# Altium schematic symbol library ASV-50MHz-GOST.SchLib: 2 symbols
Pins are listed as number, name and electrical type; pins without a type are passive.

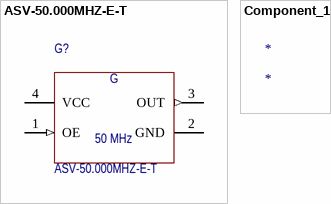
[diagram p0: symbols ASV-50.000MHZ-E-T to Component_1]

## ASV-50.000MHZ-E-T
designator G?
Abracon 50 MHz HCMOS 3.3 V oscillator; symbol redrawn from manufacturer datasheet
pins: 1 OE (in), 2 GND (power), 3 OUT (out), 4 VCC (power)
text: G; 50 MHz

## Component_1
designator *